# EAGLE library part WFT0750CZ09_IF (library PartsForProto)
WF0420CZ15変換基板用I/F
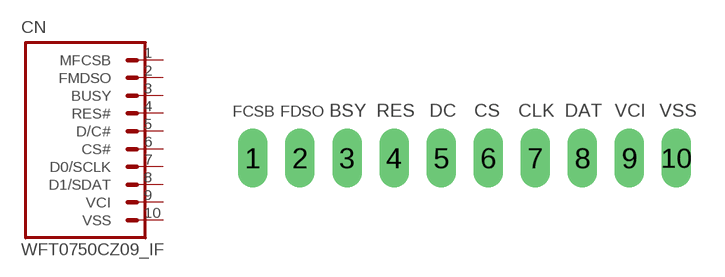
[diagram p23: symbol with the pads of WFT0750CZ09_IF_10PIN; footprint WFT0750CZ09_IF_10PIN]

Designator prefix CN

## WFT0750CZ09_IF  [WFT0750CZ09_IF_10PIN]
1  MFCSB
2  FMDSO
3  BUSY
4  RES#
5  D/C#
6  CS#
7  D0/SCLK
8  D1/SDAT
9  VCI  pas
10  VSS  pas

## Footprint WFT0750CZ09_IF_10PIN (pad centres in mm)
PIN HEADER
drill 1 pad 1.6 long: 1 0,0; 2 2.54,0; 3 5.08,0; 4 7.62,0; 5 10.16,0; 6 12.7,0; 7 15.24,0; 8 17.78,0; 9 20.32,0; 10 22.86,0